# Altium schematic symbol library PIFWRoBot.SchLib: 8 symbols
Pins are listed as number, name and electrical type; pins without a type are passive.

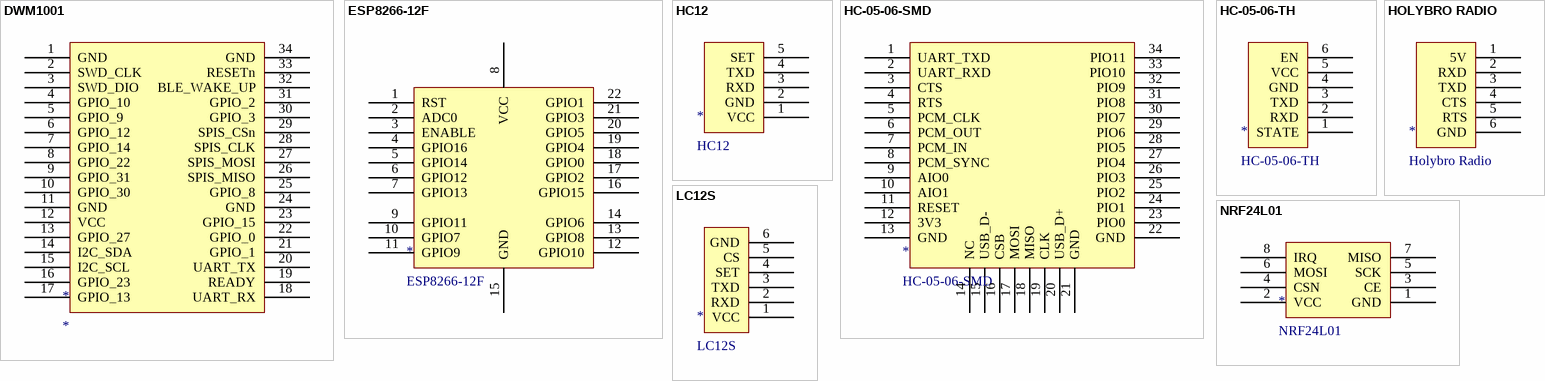
[diagram p0: symbols DWM1001 to NRF24L01]

## DWM1001
designator *
footprint DWM1001
pins: 1 GND, 2 SWD_CLK, 3 SWD_DIO, 4 GPIO_10, 5 GPIO_9, 6 GPIO_12, 7 GPIO_14, 8 GPIO_22, 9 GPIO_31, 10 GPIO_30, 11 GND, 12 VCC, 13 GPIO_27, 14 I2C_SDA, 15 I2C_SCL, 16 GPIO_23, 17 GPIO_13, 18 UART_RX, 19 READY, 20 UART_TX, 21 GPIO_1, 22 GPIO_0, 23 GPIO_15, 24 GND, 25 GPIO_8, 26 SPIS_MISO, 27 SPIS_MOSI, 28 SPIS_CLK, 29 SPIS_CSn, 30 GPIO_3, 31 GPIO_2, 32 BLE_WAKE_UP, 33 RESETn, 34 GND

## ESP8266-12F
designator *
Local Supplier: HShop; Local Supplier Link: https://hshop.vn/products/mach-thu-phat-wifi-soc-esp8266-v12; Local Supplier Link Part Number: HS000912; Manufacturer: *; Manufacturer Part Number: *
footprint ESP8266-12F
pins: 1 RST, 2 ADC0, 3 ENABLE, 4 GPIO16, 5 GPIO14, 6 GPIO12, 7 GPIO13, 8 VCC, 9 GPIO11, 10 GPIO7, 11 GPIO9, 12 GPIO10, 13 GPIO8, 14 GPIO6, 15 GND, 16 GPIO15, 17 GPIO2, 18 GPIO0, 19 GPIO4, 20 GPIO5, 21 GPIO3, 22 GPIO1

## HC12
designator *
Local Supplier Link: https://hshop.vn/products/mach-thu-phat-rf-uart-si4463-433mhzkhoang-coch-1km; Local Supplier Part Number: HS000897; Manufacturer: *; Manufactuer Part Number: *; Local Supplier: HShop
footprint HC12
pins: 1 VCC, 2 GND, 3 RXD, 4 TXD, 5 SET

## HC-05-06-SMD
designator *
Local Supplier Link: https://hshop.vn/products/mach-thu-phat-bluetooth-hc-05-chua-ra-chon-master; Local Supplier Part Number: HS000881; Manufacturer: *; Manufacturer Part Number: *; Local Supplier: HShop
footprint HC-05-06-SMD
pins: 1 UART_TXD, 2 UART_RXD, 3 CTS, 4 RTS, 5 PCM_CLK, 6 PCM_OUT, 7 PCM_IN, 8 PCM_SYNC, 9 AIO0, 10 AIO1, 11 RESET, 12 3V3, 13 GND, 14 NC, 15 USB_D-, 16 CSB, 17 MOSI, 18 MISO, 19 CLK, 20 USB_D+, 21 GND, 22 GND, 23 PIO0, 24 PIO1, 25 PIO2, 26 PIO3, 27 PIO4, 28 PIO5, 29 PIO6, 30 PIO7, 31 PIO8, 32 PIO9, 33 PIO10, 34 PIO11

## HC-05-06-TH
designator *
Local Supplier Link: https://hshop.vn/products/mach-thu-phat-bluetooth-hc-05-do-ra-chon-master; Local Supplier Part Number: HS000882; Manufacturer: *; Manufacturer Part Number: *; Local Supplier: HShop
footprint HC-05-06-TH
pins: 1 STATE, 2 RXD, 3 TXD, 4 GND, 5 VCC, 6 EN

## HOLYBRO RADIO
designator *, comment Holybro Radio
Supploer Part Number: *; Supplier: *; Supploer Link: https://www.lazada.vn/products/ld-holybro-433mhz-915-mhz-500-mw-thu-phat-vo-tuyen-xa-bo-v3-cho-pixhawk-4-dieu-khien-chuyen-bay-i430804435-s768474304.html?spm=a2o4n.searchlist.list.4.25396b19yIS9XO&search=1; Manufacturer Part Number: *; Manufacturer: *
footprint HOLYBRO RADIO
pins: 1 5V, 2 RXD, 3 TXD, 4 CTS, 5 RTS, 6 GND

## LC12S
designator *
Local Supplier: HShop; Local Supplier Link: https://hshop.vn/products/mach-thu-phat-rf-uart-lc12s-2-4ghz; Local Supplier Part Number: HS000895; Manufacturer: *; Manufacturer Part Number: *
footprint LC12S
pins: 1 VCC, 2 RXD, 3 TXD, 4 SET, 5 CS, 6 GND

## NRF24L01
designator *
Local Supplier Link: https://hshop.vn/products/mach-thu-phat-nrf24l01-pa-2-4ghzcu-khech-dai-cung-suat-thu-phat; Local Supplier Part Number: HS000888; Manufacturer: *; Manufacturer Part Number: *; Local Supplier: HShop
footprint NRF24L01
pins: 1 GND, 2 VCC, 3 CE, 4 CSN, 5 SCK, 6 MOSI, 7 MISO, 8 IRQ